# Altium integrated library ESP-01.IntLib: 1 symbol
Pins are listed as number, name and electrical type; pins without a type are passive.

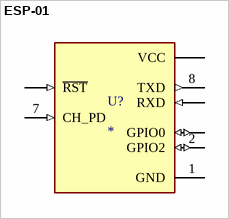
[diagram p0: symbol ESP-01]

## ESP-01
designator U?
ESP-01M ESP8266 DIP Adapter series Transceiver; 802.11 b/g/n (Wi-Fi, WiFi, WLAN) Evaluation Board; MF: AI-Thinker; MP: ESP-01; SnapEDA_Link: https://www.snapeda.com/parts/ESP-01/AI-Thinker/view-part/?ref=snap; Package: Non-Standard AI-Thinker; Value: *; Check_prices: https://www.snapeda.com/parts/ESP-01/AI-Thinker/view-part/?ref=eda
footprint MODULE_ESP-01
pins: 1 GND (power), 2 GPIO2 (io), 3 GPIO0 (io), 4 RXD (in), 5 VCC (power), 6 ~{RST} (in), 7 CH_PD (in), 8 TXD (out)